# Altium footprint library ch32v003f4p6.PcbLib: 16 footprints
Each footprint in its own frame and in the unit in brackets; x right, y up, seen from the top. Pads: shape width x height; smd on the part's side, far side on the other; paste and mask are expansions set on the pad; w line width, h text height; cw(c..) or ccw(c..) is an arc to the next point about the centre after c.
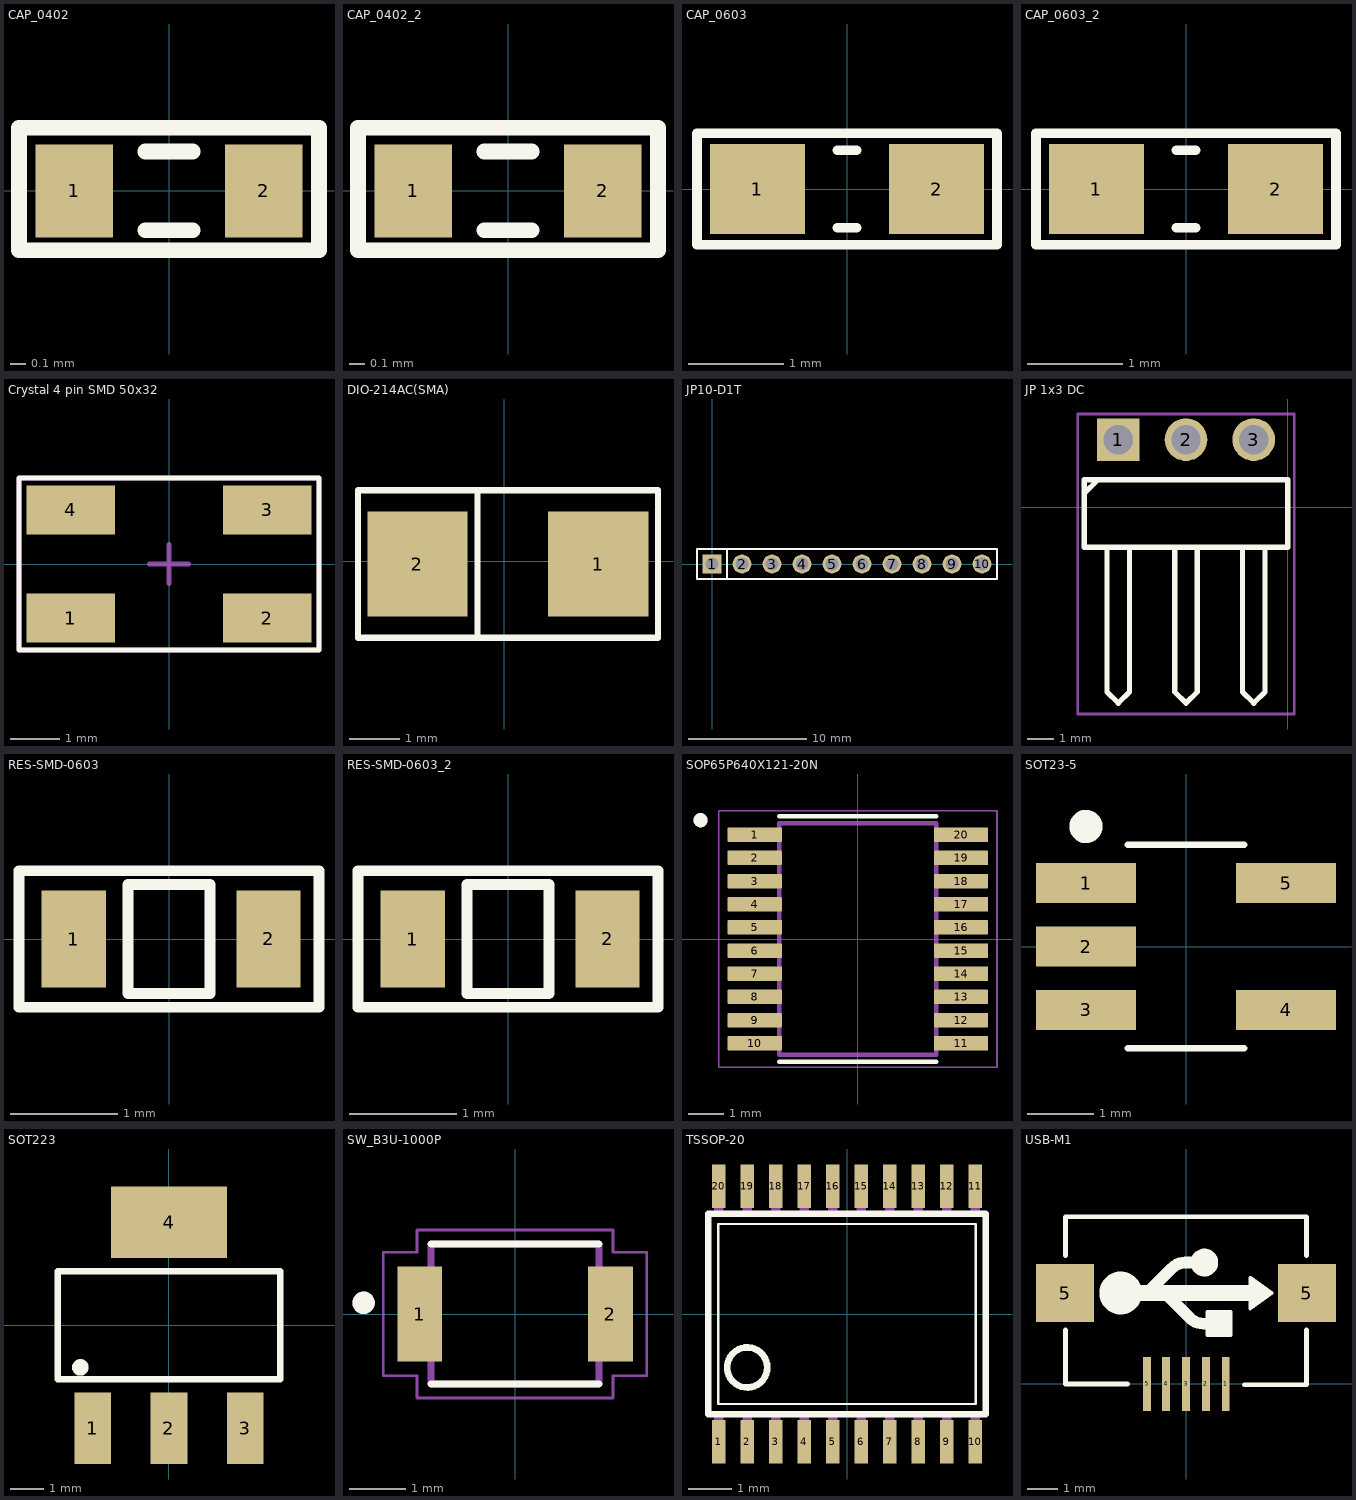
[diagram p0: the footprints below, top view; thin cyan lines are the x and y axes]

## CAP_0402 [mm]
height 5.08
pads (2):
  rect 0.5x0.6 smd: 1(-0.61,0) 2(0.61,0)
Top Overlay:
  lines w0.1: -0.152,-0.254 0.152,-0.254 ; -0.152,0.254 0.152,0.254 ; -0.965,-0.381 0.965,-0.381 0.965,0.406 -0.965,0.406 -0.965,-0.381
3D body "capacitor-0402C.step": height 0.35, standoff 0, extent -0.5,-0.265 0.5,0.265

## CAP_0402_2 [mm]
pads (2):
  rect 0.5x0.6 smd: 1(-0.61,0) 2(0.61,0)
Top Overlay:
  lines w0.1: -0.152,-0.254 0.152,-0.254 ; -0.152,0.254 0.152,0.254 ; -0.965,-0.381 0.965,-0.381 0.965,0.406 -0.965,0.406 -0.965,-0.381
3D body "capacitor-0402C.step": height 0.35, standoff 0, extent -0.5,-0.265 0.5,0.265

## CAP_0603 [mm]
height 5.08
pads (2):
  rect 1x0.95 smd mask+0.076: 1(-0.94,0) 2(0.94,0)
Top Overlay:
  lines w0.102: -0.102,-0.406 0.102,-0.406 ; -0.102,0.406 0.102,0.406 ; -1.575,-0.584 -1.575,0.584 1.575,0.584 1.575,-0.584 -1.575,-0.584
Mechanical 13:
  lines w0.1: -0.749,-0.4 -0.749,0.4 ; 0.851,-0.4 0.851,0.4
3D body "User Library-CAPC1608X09.step": height 0.9, standoff 0, extent -0.775,-0.394 0.825,0.406

## CAP_0603_2 [mm]
pads (2):
  rect 1x0.95 smd mask+0.076: 1(-0.94,0) 2(0.94,0)
Top Overlay:
  lines w0.102: -0.102,-0.406 0.102,-0.406 ; -0.102,0.406 0.102,0.406 ; -1.575,-0.584 1.575,-0.584 1.575,0.584 -1.575,0.584 -1.575,-0.584
Mechanical 13:
  lines w0.1: -0.749,-0.4 -0.749,0.4 ; 0.851,-0.4 0.851,0.4
3D body "User Library-CAPC1608X09.step": height 0.9, standoff 0, extent -0.775,-0.394 0.825,0.406

## Crystal 4 pin SMD 50x32 [mm] "Quartz Crystal, SM; Body 6.0 x 3.5 mm (LxW)"
height 1
pads (4):
  rect 1.8x1 smd: 1(-2,-1.1) 2(2,-1.1) 3(2,1.1) 4(-2,1.1)
Top Overlay:
  lines w0.1: -3.05,-1.75 3.05,-1.75 3.05,1.75 -3.05,1.75 -3.05,-1.75
Mechanical 13:
  lines w0.1: -3.05,-1.75 -3.05,1.75 3.05,1.75 3.05,-1.75 -3.05,-1.75
Mechanical 15:
  lines w0.1: -0.4,0 0.4,0 ; 0,-0.4 0,0.4
3D body: height 0.9, standoff -0.05, extent -2.475,-1.6 2.525,1.6

## DIO-214AC(SMA) [mm] "DO-214AC Diode Smallest Size"
pads (2):
  rect 2x2.1 smd: 1(1.88,-0.051) 2(-1.732,-0.051)
Top Overlay:
  lines w0.127: -0.533,-1.524 -0.533,1.422 ; -2.921,-1.524 -2.141,-1.524 3.073,-1.524 3.073,1.422 -2.141,1.422 -2.921,1.422 -2.921,-1.524
3D body "User Library-DO-214Aa SMA.step": height 2.4, standoff 0, extent -2.498,-1.351 2.702,1.249

## JP10-D1T [mm] "10 pins, 1 row, straight, gold plating"
height 8.54
pads (10):
  rect 1.6x1.6 hole 1.1: 1(0,0)
  round 1.6 hole 1.1: 2(2.54,0) 3(5.08,0) 4(7.62,0) 5(10.16,0) 6(12.7,0) 7(15.24,0) 8(17.78,0) 9(20.32,0) 10(22.86,0)
Top Overlay:
  lines w0.2: 1.27,-1.27 1.27,1.27 ; -1.27,-1.27 24.13,-1.27 24.13,1.27 0.635,1.27 -1.27,1.27 -1.27,-1.27
3D body "61301011121.stp": height 8.54, standoff -3, extent -1.27,-1.27 24.13,1.27

## JP 1x3 DC [mm]
height 2.54
pads (3):
  rect 1.6x1.6 hole 1.1: 1(-6.35,2.54)
  round 1.6 hole 1.1: 2(-3.81,2.54) 3(-1.27,2.54)
Top Overlay:
  lines w0.2: -7.578,0.574 -7.154,0.998 ; -6.773,-1.525 -6.773,-6.919 -6.35,-7.342 -5.927,-6.919 -5.927,-1.5 ; -4.233,-1.525 -4.233,-6.919 -3.81,-7.342 -3.387,-6.919 -3.387,-1.525 ; -1.693,-1.525 -1.693,-6.919 -1.27,-7.342 -0.847,-6.919 -0.847,-1.5 ; -7.62,-1.5 -7.62,1.04 0,1.04 0,-1.5 -7.62,-1.5
Mechanical 15:
  lines w0.1: -7.87,-7.75 0.25,-7.75 0.25,3.5 -7.87,3.5 -7.87,-7.75
3D body "61300311021.stp": height 2.55, standoff -2.99, extent -7.62,-7.524 0,2.836

## RES-SMD-0603 [mm]
height 5.08
pads (2):
  rect 0.6x0.9 smd: 1(-0.889,0) 2(0.927,0)
Top Overlay:
  lines w0.1: -1.397,-0.635 -1.397,0.635 1.397,0.635 1.397,-0.635 0.889,-0.635 -1.397,-0.635 ; -0.381,-0.508 -0.381,0.508 0.381,0.508 0.381,-0.508 -0.381,-0.508
3D body "User Library-SMD RESISTOR-1 (3).step": height 0.43, standoff -0.03, extent -0.8,-0.4 0.8,0.4

## RES-SMD-0603_2 [mm]
pads (2):
  rect 0.6x0.9 smd: 1(-0.889,0) 2(0.927,0)
Top Overlay:
  lines w0.1: -1.397,-0.635 0.889,-0.635 1.397,-0.635 1.397,0.635 -1.397,0.635 -1.397,-0.635 ; -0.381,-0.508 0.381,-0.508 0.381,0.508 -0.381,0.508 -0.381,-0.508
3D body "User Library-SMD RESISTOR-1 (3).step": height 0.43, standoff -0.03, extent -0.8,-0.4 0.8,0.4

## SOP65P640X121-20N [mm]
height 1.21
pads (20):
  rrect12% 1.52x0.41 smd: 1(-2.895,2.925) 2(-2.895,2.275) 3(-2.895,1.625) 4(-2.895,0.975) 5(-2.895,0.325) 6(-2.895,-0.325) 7(-2.895,-0.975) 8(-2.895,-1.625) 9(-2.895,-2.275) 10(-2.895,-2.925) 11(2.895,-2.925) 12(2.895,-2.275) 13(2.895,-1.625) 14(2.895,-0.975) 15(2.895,-0.325) 16(2.895,0.325) 17(2.895,0.975) 18(2.895,1.625) 19(2.895,2.275) 20(2.895,2.925)
Top Overlay:
  circle w0.2: c-4.415,3.335 r0.1
  lines w0.127: -2.2,-3.45 2.2,-3.45 ; -2.2,3.45 2.2,3.45
Mechanical 13:
  circle w0.2: c-4.415,3.335 r0.1
  lines w0.127: -2.2,-3.25 -2.2,3.25 2.2,3.25 2.2,-3.25 -2.2,-3.25
Mechanical 15:
  lines w0.05: -3.905,-3.6 -3.905,3.6 3.905,3.6 3.905,-3.6 -3.905,-3.6
3D body "step_temp.STEP": height 1.1, standoff 0, extent -3.2,-3.25 3.2,3.25

## SOT23-5 [mm] "SOT23, 5-Leads, Body 3.0x3.0mm (max), Pitch 0.95mm, IPC Medium Density"
height 1.45
pads (5):
  rect 1.5x0.6 smd: 1(-1.5,0.95) 2(-1.5,0) 3(-1.5,-0.95) 4(1.5,-0.95) 5(1.5,0.95)
Top Overlay:
  circle w0.25: c-1.5,1.8 r0.125
  lines w0.1: -0.875,-1.525 0.875,-1.525 ; -0.875,1.525 0.875,1.525
3D body: height 0.15, standoff 0, extent 1.219,-1.168 1.753,-0.711
3D body: height 0.9, standoff 0, extent 1.092,-1.168 1.219,-0.711
3D body: height 0.9, standoff 0.75, extent 0.813,-1.168 1.092,-0.711
3D body: height 0.15, standoff 0, extent 1.219,0.732 1.753,1.189
3D body: height 0.9, standoff 0, extent 1.092,0.732 1.219,1.189
3D body: height 0.9, standoff 0.75, extent 0.813,0.732 1.092,1.189
3D body: height 0.15, standoff 0, extent -1.753,-1.189 -1.219,-0.732
3D body: height 0.9, standoff 0, extent -1.219,-1.189 -1.092,-0.732
3D body: height 0.9, standoff 0.75, extent -1.092,-1.189 -0.813,-0.732
3D body: height 0.15, standoff 0, extent -1.753,-0.239 -1.219,0.218
3D body: height 0.9, standoff 0, extent -1.219,-0.239 -1.092,0.218
3D body: height 0.9, standoff 0.75, extent -1.092,-0.239 -0.813,0.218
3D body: height 1.45, standoff 0, extent -0.875,-1.525 0.875,1.525
3D body: height 0.9, standoff 0.75, extent -1.092,0.711 -0.813,1.168
3D body: height 0.9, standoff 0, extent -1.219,0.711 -1.092,1.168
3D body: height 0.15, standoff 0, extent -1.753,0.711 -1.219,1.168

## SOT223 [mm] "SOT-223/SC-73; 4 Leads; Body 6.7 x 7.3 mm, inc. leads (LxW max)"
height 1.8
pads (4):
  rect 1.1x2.15 smd: 1(-2.3,-3.1) 2(0,-3.1) 3(2.3,-3.1)
  rect 3.5x2.15 smd: 4(0,3.1)
Top Overlay:
  circle w0.25: c-2.665,-1.27 r0.125
  lines w0.2: -3.35,-1.625 3.35,-1.625 3.35,1.625 -3.35,1.625 -3.35,-1.625
3D body: height 2.54, standoff 0, extent -3.429,-1.651 3.429,1.651

## SW_B3U-1000P [mm]
height 5.08
pads (2):
  rect 0.8x1.7 smd: 1(-1.7,0) 2(1.7,0)
Top Overlay:
  circle w0.2: c-2.7,0.2 r0.1
  lines w0.127: -1.5,-1.25 1.5,-1.25 ; -1.5,1.25 1.5,1.25
Mechanical 13:
  circle w0.2: c-2.7,0.2 r0.1
  lines w0.127: -1.5,-1.25 -1.5,1.25 1.5,1.25 1.5,-1.25 -1.5,-1.25
Mechanical 15:
  lines w0.05: -2.35,-1.1 -1.75,-1.1 -1.75,-1.5 1.75,-1.5 1.75,-1.1 2.35,-1.1 2.35,1.1 1.75,1.1 1.75,1.5 -1.75,1.5 -1.75,1.1 -2.35,1.1 -2.35,-1.1

## TSSOP-20 [mil] "TSSOP-20"
height 200
pads (20):
  rect 12x39 smd: 1(-115.16,-114.87) 2(-89.57,-114.87) 3(-63.98,-114.87) 4(-38.39,-114.87) 5(-12.8,-114.87) 6(12.8,-114.87) 7(38.39,-114.87) 8(63.98,-114.87) 9(89.57,-114.87) 10(115.16,-114.87) 11(115.16,114.87) 12(89.57,114.87) 13(63.98,114.87) 14(38.39,114.87) 15(12.8,114.87) 16(-12.8,114.87) 17(-38.39,114.87) 18(-63.98,114.87) 19(-89.57,114.87) 20(-115.16,114.87)
Top Overlay:
  circle w6: c-89.59,-48 r18
  lines w2: -115.59,-80.87 -115.59,80.87 115.59,80.87 115.59,-80.87 -115.59,-80.87
  lines w6: -124.59,-89.87 -124.59,89.87 124.59,89.87 124.59,-89.87 -124.59,-89.87
Mechanical 13:
  region: -111.16,89.96 -119.28,89.96 -119.28,122.87 -111.16,122.87
  region: -85.57,89.88 -93.57,89.88 -93.57,122.87 -85.57,122.87
  region: -59.98,89.88 -67.98,89.88 -67.98,122.87 -59.98,122.87
  region: -34.39,89.89 -42.39,89.89 -42.39,122.87 -34.39,122.87
  region: -8.8,89.93 -16.81,89.93 -16.81,122.87 -8.8,122.87
  region: 16.8,89.95 8.8,89.95 8.8,122.87 16.8,122.87
  region: 42.39,89.92 34.4,89.92 34.4,122.87 42.39,122.87
  region: 67.98,89.92 60.01,89.92 60.01,122.87 67.98,122.87
  region: 93.57,89.91 85.6,89.91 85.6,122.87 93.57,122.87
  region: 119.16,89.95 111.25,89.95 111.25,122.87 119.16,122.87
  region: 119.16,-122.88 111.17,-122.88 111.17,-89.87 119.16,-89.87
  region: 93.57,-123.11 85.73,-123.11 85.73,-89.87 93.57,-89.87
  region: 67.98,-123.06 60.07,-123.06 60.07,-89.87 67.98,-89.87
  region: 42.39,-122.91 34.4,-122.91 34.4,-89.87 42.39,-89.87
  region: 16.8,-122.9 8.8,-122.9 8.8,-89.87 16.8,-89.87
  region: -8.8,-123.1 -16.83,-123.1 -16.83,-89.87 -8.8,-89.87
  region: -34.39,-123.08 -42.46,-123.08 -42.46,-89.87 -34.39,-89.87
  region: -59.98,-122.88 -67.98,-122.88 -67.98,-89.87 -59.98,-89.87
  region: -85.57,-123.12 -93.75,-123.12 -93.75,-89.87 -85.57,-89.87
  region: -111.16,-123.02 -119.3,-123.02 -119.3,-89.87 -111.16,-89.87

## USB-M1 [mil]
height 153.54
pads (7):
  rect 10x70 smd: 1(51.18,0) 2(25.59,0) 3(0,0) 4(-25.59,0) 5(-50,0)
  rect 74.8x74.8 smd: 5(-155.51,116.84) 5(155.51,116.84)
Top Overlay:
  circle w20: c23.56,156.21 r7.87
  circle w35: c-84.07,117 r10
  region: 57.03,62.87 27.5,62.87 27.5,92.39 57.03,92.39
  region: 110.18,117 82.62,97.31 82.62,136.69
  lines w5: 27.5,62.87 57.03,62.87 57.03,92.39 27.5,92.39 27.5,62.87 ; 82.62,97.31 82.62,136.69 110.18,117 82.62,97.31
  lines w6: -155,69.8 -155,0 -75,0 ; -155,164.84 -155,215 155,215 155,164.84 ; 75,-1 155,-1 155,69.8
  lines w15: -52.85,114.46 -18.48,148.83 cw(c-0.65,131) -0.65,156.21 22.5,156.21 ; -24.7,114.54 4.83,85.01 ccw(c22.66,102.84) 22.66,77.63 42.5,77.63
  lines w20: -82.5,117 92.5,117
3D body "Micro USB.STP": height 106.7, standoff -9.04, extent -156.58,4.51 157.59,218.29